# EAGLE library part MCP1612-ADJI/MS (library thermo)
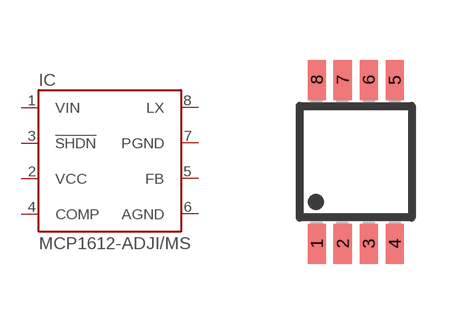
[diagram p3: symbol with the pads of MSOP8; footprint MSOP8]

Designator prefix IC

## MCP1612-ADJI/MS  [MSOP8]
1  VIN
2  VCC
3  !SHDN!
4  COMP
5  FB
6  AGND
7  PGND
8  LX

## Footprint MSOP8 (pad centres in mm)
Micro Small Outline Package Grid 0.65mm Source: http://ww1.microchip.com/downloads/en/DeviceDoc/21796H.pdf
smd 0.45 x 1: 1 -0.975,-2.05; 2 -0.325,-2.05; 3 0.325,-2.05; 4 0.975,-2.05; 5 0.975,2.05; 6 0.325,2.05; 7 -0.325,2.05; 8 -0.975,2.05